# Altium footprint library NCP176BMX330TCG.PcbLib: 1 footprints
Each footprint in its own frame and in the unit in brackets; x right, y up, seen from the top. Pads: shape width x height; smd on the part's side, far side on the other; paste and mask are expansions set on the pad; w line width, h text height; cw(c..) or ccw(c..) is an arc to the next point about the centre after c.
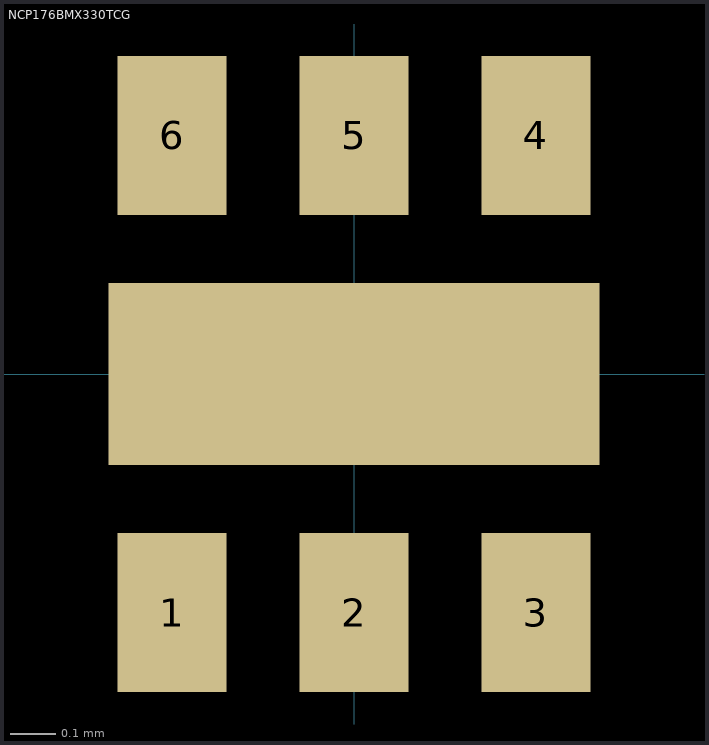
[diagram p0: the footprint, top view; thin cyan lines are the x and y axes]

## NCP176BMX330TCG [mm]
height 0.375
pads (7):
  rect 0.24x0.35 smd: 1(-0.4,-0.525) 2(0,-0.525) 3(0.4,-0.525) 4(0.4,0.525) 5(0,0.525) 6(-0.4,0.525)
  rect 1.08x0.4 smd: ""(0,0)
3D body: height 0.38, standoff 0.03, extent -0.61,-0.77 0.61,0.77